# EAGLE library part WISECHIP_HUD_FPC (library SparkFun-Displays)
Kyocera 046288010000846+ - 10 Position Flat Flex Cable Connector for WiseChip HUD This 10 position FFC connects to the WiseChip transparent OLED HUD (Part Number: WiseChip US-0011 MIAG01, SFE SKU: LCD-14137) SparkFun Products: SparkX Qwiic Transparent OLED HUD <https://www.sparkfun.com/products/14691>
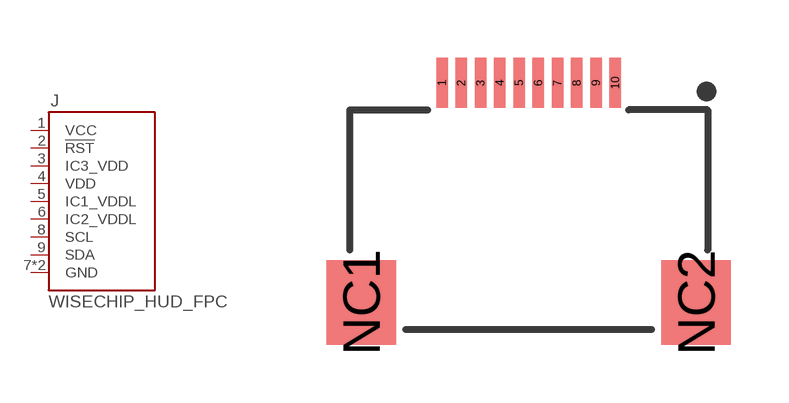
[diagram p8: symbol with the pads of SERIES6288; footprint SERIES6288]

Designator prefix J

## WISECHIP_HUD_FPC (PROD_ID: LCD-14137, CONN-14136)  [SERIES6288]
1  VCC
2  !RST
3  IC3_VDD
4  VDD
5  IC1_VDDL
6  IC2_VDDL
7  GND
8  SCL
9  SDA
10  GND

## Footprint SERIES6288 (pad centres in mm)
Kyocera 046288010000846+ - 10 Position Flat Flex Cable Connector for WiseChip HUD Specifications: Pin count: 10 Pin pitch: .5 mm Area: 10.5 mm x 7.45 mm Datasheet referenced for footprint <https://www.digikey.com/en/datasheets/kyocera-international-inc.-electronic-components/kyocera-international-inc-electronic-components-6288>
smd 0.3 x 1.3: 1 -2.3,3.4; 2 -1.8,3.4; 3 -1.3,3.4; 4 -0.8,3.4; 5 -0.3,3.4; 6 0.2,3.4; 7 0.7,3.4; 8 1.2,3.4; 9 1.7,3.4; 10 2.2,3.4
smd 1.8 x 2.2: NC1 -4.4,-2.3; NC2 4.3,-2.3